# Altium schematic symbol library GOST SymbolKit.SchLib: 96 symbols
Pins are listed as number, name and electrical type; pins without a type are passive.

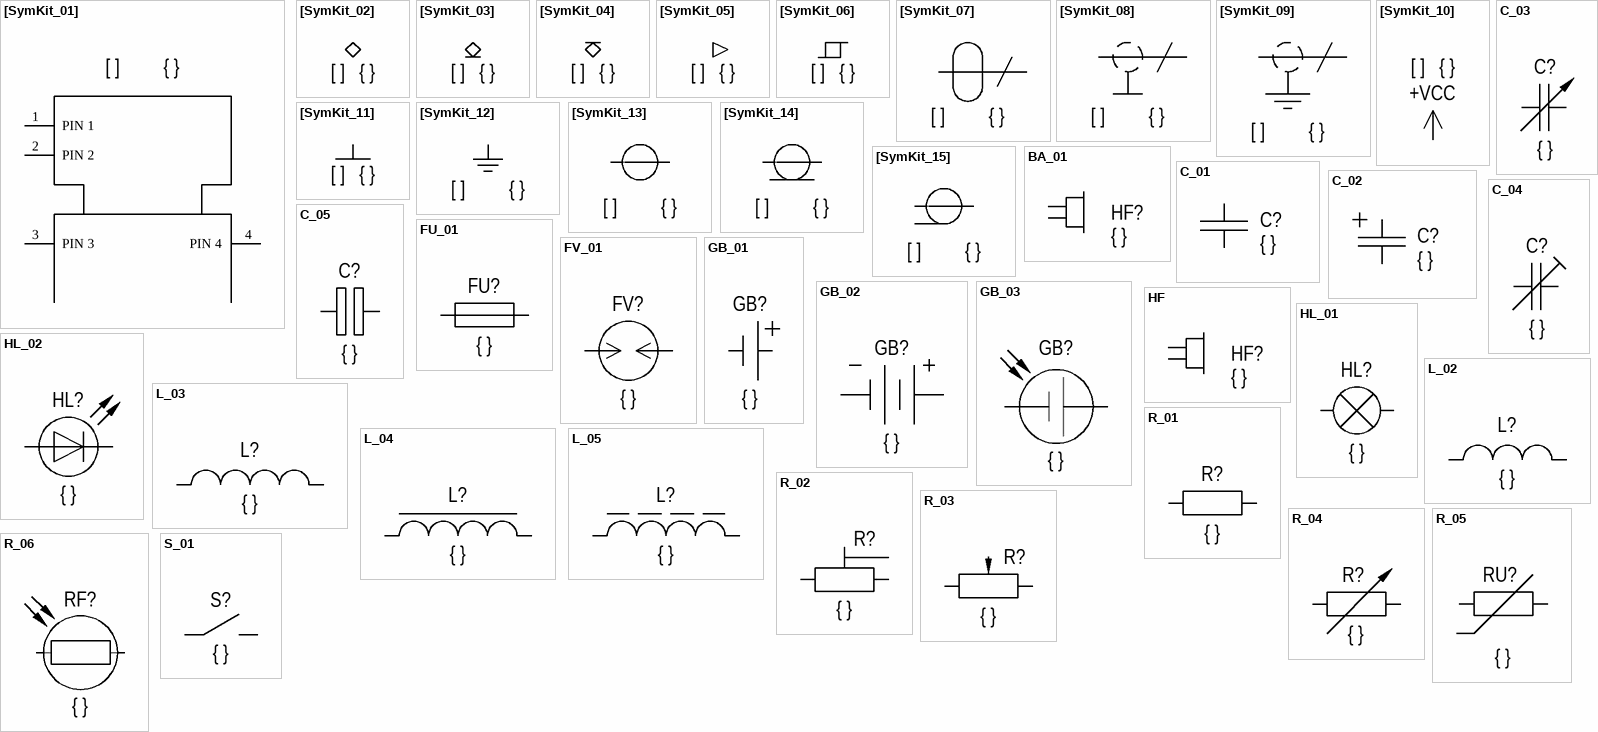
[diagram p0: symbols [SymKit_01] to S_01]

## [SymKit_01]
designator [ ], comment { }
Общий блок управления; ЕСКД: ГОСТ 2.743-91
pins: 1 PIN 1, 2 PIN 2, 3 PIN 3, 4 PIN 4

## [SymKit_02]
designator [ ], comment { }
Метка вывода компонента: Выход открытый; ЕСКД: ГОСТ 2.743-91
1 alternate drawing of the same symbol

## [SymKit_03]
designator [ ], comment { }
Метка вывода компонента: Выход открытый L-типа; ЕСКД: ГОСТ 2.743-91
1 alternate drawing of the same symbol

## [SymKit_04]
designator [ ], comment { }
Метка вывода компонента: Выход открытый H-типа; ЕСКД: ГОСТ 2.743-91
1 alternate drawing of the same symbol

## [SymKit_05]
designator [ ], comment { }
Функция элемента: Усилитель; ЕСКД: ГОСТ 2.743-91

## [SymKit_06]
designator [ ], comment { }
Функция элемента: Элемент пороговый, гистерезисный; ЕСКД: ГОСТ 2.743-91; Manufacturer: *

## [SymKit_07]
designator [ ], comment { }
Группа линий электрической связи, имеющих общее функциональное назначение и осуществляемых многожильным кабелем; ЕСКД: ГОСТ 2.721-74
pins: 1, 2

## [SymKit_08]
designator [ ], comment { }
Группа линий электрической связи в общем экране. Экран соединен с корпусом; ЕСКД: ГОСТ 2.721-74
pins: 1, 2

## [SymKit_09]
designator [ ], comment { }
Группа линий электрической связи в общем экране. Экран соединен с землей; ЕСКД: ГОСТ 2.721-74
pins: 1, 2

## [SymKit_10]
designator [ ], comment { }  (net tie, no BOM)
Питание; ЕСКД: ГОСТ 2.721-74
pins: 1 VCC
text: +VCC

## [SymKit_11]
designator [ ], comment { }
Земля; ЕСКД: ГОСТ 2.721-74
pins: 1 GND (power)

## [SymKit_12]
designator [ ], comment { }
Заземление; ЕСКД: ГОСТ 2.721-74
pins: 1 KORPUS (power)

## [SymKit_13]
designator [ ], comment { }
Волновод круглый; ЕСКД: ГОСТ 2.734-68
pins: 1, 2

## [SymKit_14]
designator [ ], comment { }
Волновод коаксиальный; ЕСКД: ГОСТ 2.734-68
pins: 1, 2

## [SymKit_15]
designator [ ], comment { }
Конец коаксиальной структуры. Касательная к окружности направлена в сторону изображения коаксиальной структуры; ЕСКД: ГОСТ 2.721-74
pins: 1, 2
1 alternate drawing of the same symbol

## BA_01
designator HF?, comment { }
Громкоговоритель (Репродуктор); ЕСКД: ГОСТ 2.747-68; Manufacturer: *
pins: 1 Terminal A, 2 Terminal B

## C_01
designator C?, comment { }
Конденсатор; ЕСКД: ГОСТ 2.728-74; Manufacturer: *
pins: 1 Terminal A, 2 Terminal B

## C_02
designator C?, comment { }
Конденсатор полярный; ЕСКД: ГОСТ 2.728-74; Manufacturer: *
pins: 1, 2

## C_03
designator C?, comment { }
Конденсатор переменный; ЕСКД: ГОСТ 2.728-74; Manufacturer: *
pins: 1, 2

## C_04
designator C?, comment { }
Конденсатор подстроечный; ЕСКД: ГОСТ 2.728-74; Manufacturer: *
pins: 1, 2

## C_05
designator C?, comment { }
Конденсатор электролитический неполярный; ЕСКД: ГОСТ 2.728-74; Manufacturer: *
pins: 1, 2

## FU_01
designator FU?, comment { }
Предохранитель плавкий; ЕСКД: ГОСТ 2.727-68; Manufacturer: *
pins: 1, 2

## FV_01
designator FV?, comment { }
Разрядник вакуумный; ЕСКД: ГОСТ 2.727-68; Manufacturer: *
pins: 1, 2

## GB_01
designator GB?, comment { }
Гальванический элемент; ЕСКД: ГОСТ 2.768-90
pins: 1, 2

## GB_02
designator GB?, comment { }
Батарея, состоящая из гальванических элементов; ЕСКД: ГОСТ 2.768-90
pins: 1 -, 2 +

## GB_03
designator GB?, comment { }
Фотоэлемент солнечный; ЕСКД: ГОСТ 2.730-73
pins: 1, 2

## HF
designator HF?, comment { }
Пьезоизлучатель; ЕСКД: ГОСТ 2.747-68; Manufacturer: *
pins: 1 Terminal A, 2 Terminal B

## HL_01
designator HL?, comment { }
Лампа; ЕСКД: ГОСТ 2.732-68; Manufacturer: *
pins: 1 Terminal A, 2 Terminal B

## HL_02
designator HL?, comment { }
Светодиод; ЕСКД: ГОСТ 2.730-73; Manufacturer: *
pins: 1 A, 2 K

## L_02
designator L?, comment { }
Управляющая обмнотка изображенного разнесенным способом магнитного усилителя, трансдуктора; ЕСКД: ГОСТ 2.723-68; Manufacturer: *
pins: 1, 2

## L_03
designator L?, comment { }
Катушка индуктивности, дроссель без магнитопровода; ЕСКД: ГОСТ 2.723-68; Manufacturer: *
pins: 1, 2

## L_04
designator L?, comment { }
Дроссель с ферромагнитным магнитопроводом; ЕСКД: ГОСТ 2.723-68; Manufacturer: *
pins: 1, 2

## L_05
designator L?, comment { }
Катушка индуктивности с магнитодиэлектрическим магнитопроводом; ЕСКД: ГОСТ 2.723-68; Manufacturer: *
pins: 1, 2

## R_01
designator R?, comment { }
Резистор; ЕСКД: ГОСТ 2.728-74; Manufacturer: *
pins: 1 Terminal A, 2 Terminal B
7 alternate drawings of the same symbol

## R_02
designator R?, comment { }
Резистор подстроечный; ЕСКД: ГОСТ 2.728-74; Manufacturer: *
pins: 1 A, 2 B, 3 C

## R_03
designator R?, comment { }
Резистор переменный; ЕСКД: ГОСТ 2.728-74; Manufacturer: *
pins: 1 A, 2 B, 3 C

## R_04
designator R?, comment { }
Реостатное включение переменного резистора; ЕСКД: ГОСТ 2.728-74; Manufacturer: *
pins: 1 A, 2 B

## R_05
designator RU?, comment { }
Варистор; ЕСКД: ГОСТ 2.728-74
pins: 1, 2

## R_06
designator RF?, comment { }
Фоторезистор; ЕСКД: ГОСТ 2.730-73; Manufacturer: *
pins: 1 Terminal A, 2 Terminal B

## S_01
designator S?, comment { }
Контакт замыкающий коммутационного устройства; ЕСКД: ГОСТ 2.755-87; Manufacturer: *
pins: 1, 2

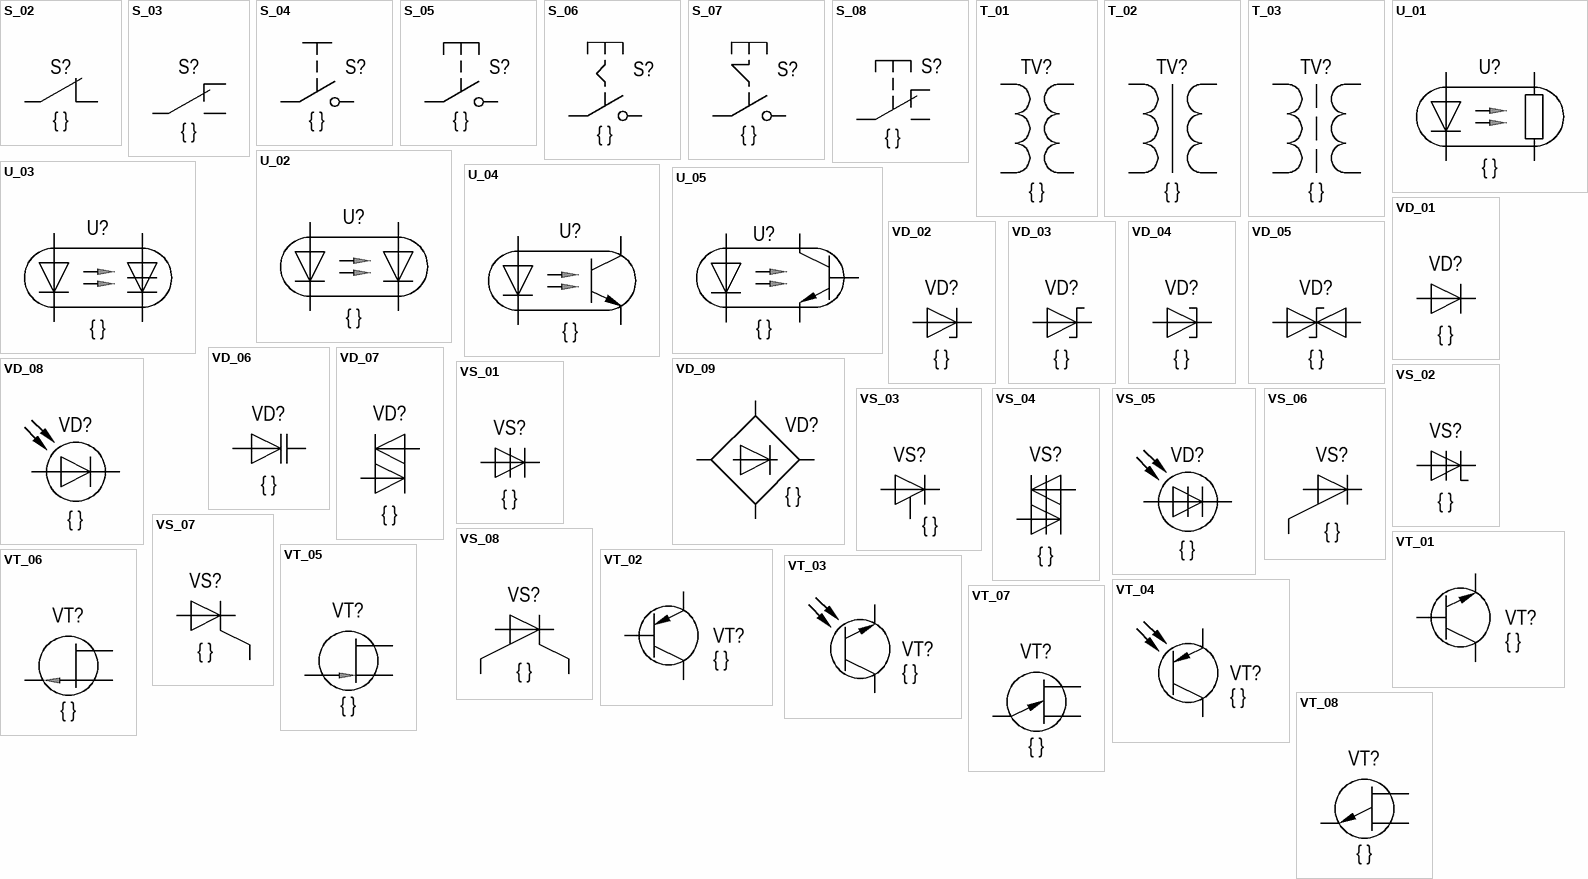
[diagram p1: symbols S_02 to VT_08]

## S_02
designator S?, comment { }
Контакт размыкающий коммутационного устройства; ЕСКД: ГОСТ 2.755-87; Manufacturer: *
pins: 1, 2

## S_03
designator S?, comment { }
Контакт переключающий коммутационного устройства; ЕСКД: ГОСТ 2.755-87; Manufacturer: *
pins: 1, 2, 3

## S_04
designator S?, comment { }
Выключатель ручной; ЕСКД: ГОСТ 2.755-87; Manufacturer: *
pins: 1, 2

## S_05
designator S?, comment { }
Контакт замыкающий нажимного кнопочного выключателя без самовозврата с размыканием и возвратом элемента управления Контакт замыкающий нажимного кнопочного выключателя без самовозврата с размыканием и возвратом элемента управления автоматически; ЕСКД: ГОСТ 2.755-87; Manufacturer: *
pins: 1, 2

## S_06
designator S?, comment { }
Контакт замыкающий нажимного кнопочного выключателя без самовозврата с размыканием ивозвратом элемента управления посредством вторичного нажатия кнопки; ЕСКД: ГОСТ 2.755-87; Manufacturer: *
pins: 1, 2

## S_07
designator S?, comment { }
Контакт замыкающий нажимного кнопочного выключателя без самовозврата с размыканием и возвратом элемента управления посредством вытягивания кнопки; ЕСКД: ГОСТ 2.755-87; Manufacturer: *
pins: 1, 2

## S_08
designator S?, comment { }
Контакт переключающий нажимного кнопочного выключателя с возвратом элемента управления автоматически; ЕСКД: ГОСТ 2.755-87; Manufacturer: *
pins: 1, 2, 3

## T_01
designator TV?, comment { }
Трансформатор без магнитопровода с постоянной связью; ЕСКД: ГОСТ 2.723-68; Manufacturer: *
pins: 1, 2, 3, 4

## T_02
designator TV?, comment { }
Трансформатор напряжения измерительный; ЕСКД: ГОСТ 2.723-68; Manufacturer: *
pins: 1, 2, 3, 4
1 alternate drawing of the same symbol

## T_03
designator TV?, comment { }
Трансформатор с магнитодиэлектрическим магнитопроводом; ЕСКД: ГОСТ 2.723-68; Manufacturer: *
pins: 1, 2, 3, 4

## U_01
designator U?, comment { }
Оптрон резисторный; ЕСКД: ГОСТ 2.730-73; Manufacturer: *
pins: 1, 2, 3, 4

## U_02
designator U?, comment { }
Оптрон диодный; ЕСКД: ГОСТ 2.730-73; Manufacturer: *
pins: 1, 2, 3, 4

## U_03
designator U?, comment { }
Оптрон тиристорный; ЕСКД: ГОСТ 2.730-73; Manufacturer: *
pins: 1, 2, 3, 4

## U_04
designator U?, comment { }
Прибор оптоэлектронный с фототранзистором без вывода от базы; ЕСКД: ГОСТ 2.730-73; Manufacturer: *
pins: 1, 2, 3, 4

## U_05
designator U?, comment { }
Прибор оптоэлектронный с фототранзистором с выводом от базы; ЕСКД: ГОСТ 2.730-73; Manufacturer: *
pins: 1, 2, 3, 4, 5

## VD_01
designator VD?, comment { }
Диод; ЕСКД: ГОСТ 2.730-73; Manufacturer: *
pins: 1, 2

## VD_02
designator VD?, comment { }
Стабилитрон односторонний; ЕСКД: ГОСТ 2.730-73; Manufacturer: *
pins: 1 A, 2 K

## VD_03
designator VD?, comment { }
Диод Шотки; ЕСКД: ГОСТ 2.730-73; Manufacturer: *
pins: 1, 2

## VD_04
designator VD?, comment { }
Диод тунельный; ЕСКД: ГОСТ 2.730-73; Manufacturer: *
pins: 1, 2

## VD_05
designator VD?, comment { }
Стабилитрон двухсторонний; ЕСКД: ГОСТ 2.730-73; Manufacturer: *
pins: 1, 2

## VD_06
designator VD?, comment { }
Варикап; ЕСКД: ГОСТ 2.730-73; Manufacturer: *
pins: 1 A, 2 K

## VD_07
designator VD?, comment { }
Диод двунаправленный; ЕСКД: ГОСТ 2.730-73; Manufacturer: *
pins: 1, 2

## VD_08
designator VD?, comment { }
Фотодиод; ЕСКД: ГОСТ 2.730-73; Manufacturer: *
pins: 1, 2

## VD_09
designator VD?, comment { }
Однофазная мостовая выпрямительная схема; ЕСКД: ГОСТ 2.730-73; Manufacturer: *
pins: 1, 2, 3, 4

## VS_01
designator VS?, comment { }
Тиристор диодный, запираемый в обратном направлении; ЕСКД: ГОСТ 2.730-73; Manufacturer: *
pins: 1, 2

## VS_02
designator VS?, comment { }
Тиристор диодный, проводящий в обратном направлении; ЕСКД: ГОСТ 2.730-73; Manufacturer: *
pins: 1, 2

## VS_03
designator VS?, comment { }
Тиристор триодный; ЕСКД: ГОСТ 2.730-73; Manufacturer: *
pins: 1, 2, 3

## VS_04
designator VS?, comment { }
Тиристор диодный симметричный; ЕСКД: ГОСТ 2.730-73; Manufacturer: *
pins: 1, 2

## VS_05
designator VD?, comment { }
Фототиристор диодный; ЕСКД: ГОСТ 2.730-73; Manufacturer: *
pins: 1, 2

## VS_06
designator VS?, comment { }
Тиристор триодный, запираемый в обратном направлении с управлением по аноду; ЕСКД: ГОСТ 2.730-73; Manufacturer: *
pins: 1, 2, 3

## VS_07
designator VS?, comment { }
Тиристор триодный, запираемый в обратном направлении с управлением по катоду; ЕСКД: ГОСТ 2.730-73; Manufacturer: *
pins: 1, 2, 3

## VS_08
designator VS?, comment { }
Тиристор тетроидный, запираемый в обратном направлении; ЕСКД: ГОСТ 2.730-73; Manufacturer: *
pins: 1, 2, 3, 4

## VT_01
designator VT?, comment { }
Транзистор биполярный, NPN; ЕСКД: ГОСТ 2.730-73; Manufacturer: *
pins: 1 B, 2 E, 3 K
3 alternate drawings of the same symbol

## VT_02
designator VT?, comment { }
Транзистор биполярный, PNP; ЕСКД: ГОСТ 2.730-73; Manufacturer: *
pins: 1 B, 2 E, 3 K
3 alternate drawings of the same symbol

## VT_03
designator VT?, comment { }
Фототранзистор, NPN; ЕСКД: ГОСТ 2.730-73; Manufacturer: *
pins: 1, 2

## VT_04
designator VT?, comment { }
Фототранзистор, PNP; ЕСКД: ГОСТ 2.730-73; Manufacturer: *
pins: 1 E, 2 K

## VT_05
designator VT?, comment { }
Транзистор полевой с каналом N-типа; ЕСКД: ГОСТ 2.730-73; Manufacturer: *
pins: 1, 2, 3
1 alternate drawing of the same symbol

## VT_06
designator VT?, comment { }
Транзистор полевой с каналом P-типа; ЕСКД: ГОСТ 2.730-73; Manufacturer: *
pins: 1, 2, 3
1 alternate drawing of the same symbol

## VT_07
designator VT?, comment { }
Транзистор однопереходный с N-базой; ЕСКД: ГОСТ 2.730-73; Manufacturer: *
pins: 1, 2, 3
1 alternate drawing of the same symbol

## VT_08
designator VT?, comment { }
Транзистор однопереходный с P-базой; ЕСКД: ГОСТ 2.730-73; Manufacturer: *
pins: 1, 2, 3
1 alternate drawing of the same symbol

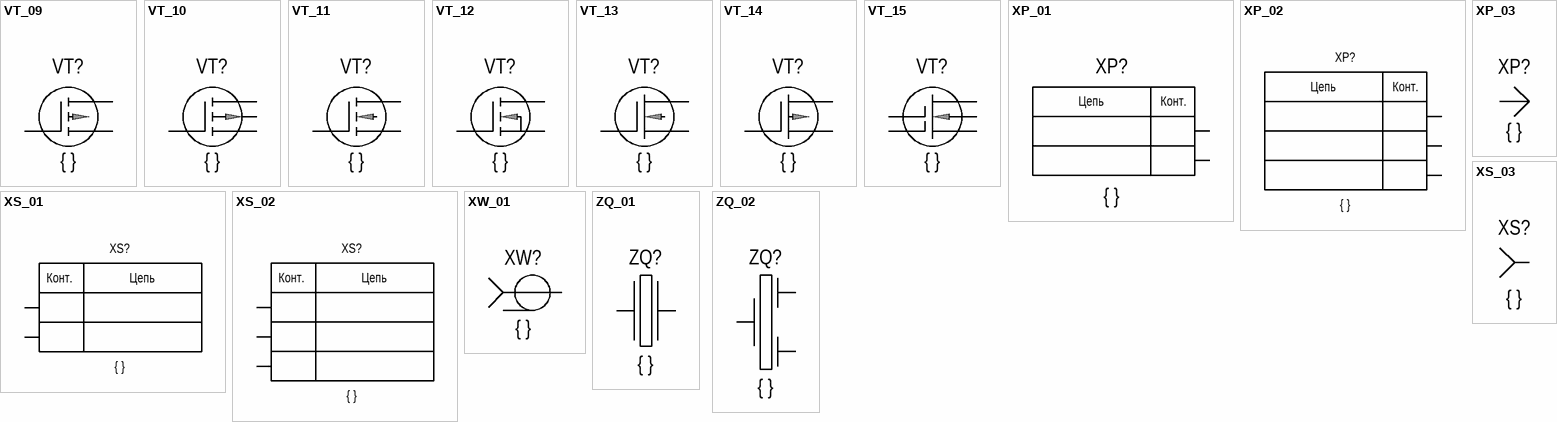
[diagram p2: symbols VT_09 to ZQ_02]

## VT_09
designator VT?, comment { }
Транзистор полевой с изолированным затвором обогащенного типа с P-каналом; ЕСКД: ГОСТ 2.730-73; Manufacturer: *
pins: 1, 2, 3
1 alternate drawing of the same symbol

## VT_10
designator VT?, comment { }
Транзистор полевой с изолированным затвором обагощенного типа с P-каналом с выводом от подложки; ЕСКД: ГОСТ 2.730-73; Manufacturer: *
pins: 1, 2, 3, 4
1 alternate drawing of the same symbol

## VT_11
designator VT?, comment { }
Транзистор полевой с изолированным затвором обогащенного типа с N-каналом; ЕСКД: ГОСТ 2.730-73; Manufacturer: *
pins: 1, 2, 3
1 alternate drawing of the same symbol

## VT_12
designator VT?, comment { }
Транзистор полевой с изолированным затвором обагощенного типа с N-каналом и c внутренним соединением подложки и истока; ЕСКД: ГОСТ 2.730-73; Manufacturer: *
pins: 1, 2, 3
1 alternate drawing of the same symbol

## VT_13
designator VT?, comment { }
Транзистор полевой с изолированным затвором обедненного типа с N-каналом; ЕСКД: ГОСТ 2.730-73; Manufacturer: *
pins: 1, 2, 3
1 alternate drawing of the same symbol

## VT_14
designator VT?, comment { }
Транзистор полевой с изолированным затвором обедненного типа с P-каналом; ЕСКД: ГОСТ 2.730-73; Manufacturer: *
pins: 1, 2, 3
1 alternate drawing of the same symbol

## VT_15
designator VT?, comment { }
Транзистор полевой с двумя изолированными затворами обедненного типа с N-каналом и с выводом от подложки; ЕСКД: ГОСТ 2.730-73; Manufacturer: *
pins: 1, 2, 3, 4, 5
1 alternate drawing of the same symbol

## XP_01
designator XP?, comment { }
Соеденитель двухвыводной; ЕСКД: ГОСТ 2.702-75; Manufacturer: *
pins: 1, 2
text: Цепь; Конт.

## XP_02
designator XP?, comment { }
Соеденитель трехвыводной; ЕСКД: ГОСТ 2.702-75; Manufacturer: *
pins: 1 Terminal 1, 2 Terminal 2, 3 Terminal 3
text: Цепь; Конт.

## XP_03
designator XP?, comment { }
Штепсель разьемного соединения; ЕСКД: ГОСТ 2.755-74
pins: 1

## XS_01
designator XS?, comment { }
Соеденитель двухвыводной; ЕСКД: ГОСТ 2.702-75; Manufacturer: *
pins: 1, 2
text: Конт.; Цепь

## XS_02
designator XS?, comment { }
Соеденитель двухвыводной; ЕСКД: ГОСТ 2.702-75; Manufacturer: *
pins: 1, 2, 3
text: Конт.; Цепь

## XS_03
designator XS?, comment { }
Гнездо разьемного соединения; ЕСКД: ГОСТ 2.755-74
pins: 1

## XW_01
designator XW?, comment { }
Гнездовая часть коаксиального разьема; ЕСКД: ГОСТ 2.275-68
pins: 1

## ZQ_01
designator ZQ?, comment { }
Элемент пьезоэлектрический с двумя выводами; ЕСКД: ГОСТ 2.736-68; Manufacturer: *
pins: 1, 2

## ZQ_02
designator ZQ?, comment { }
Элемент пьезоэлектрический с тремя выводами; ЕСКД: ГОСТ 2.736-68; Manufacturer: *
pins: 1, 2, 3